# EAGLE library part F5463AH (library simple_clock)
LED Displays & Accessories 88:88 Clock Module 0.56in 4 Digits Common Cathode
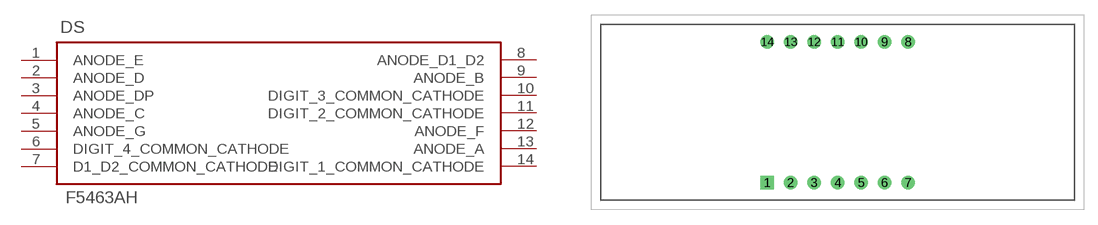
[diagram p0: symbol with the pads of F5463AH; footprint F5463AH]

Designator prefix DS

## F5463AH (DESCRIPTION: LED Displays & Accessories 88:88 Clock Module 0.56in 4 Digits CC)  [F5463AH]
1  ANODE_E
2  ANODE_D
3  ANODE_DP
4  ANODE_C
5  ANODE_G
6  DIGIT_4_COMMON_CATHODE
7  D1_D2_COMMON_CATHODE
8  ANODE_D1_D2
9  ANODE_B
10  DIGIT_3_COMMON_CATHODE
11  DIGIT_2_COMMON_CATHODE
12  ANODE_F
13  ANODE_A
14  DIGIT_1_COMMON_CATHODE

## Footprint F5463AH (pad centres in mm)
F5463AH
drill 0.9 square: 1 -7.62,-7.62
drill 0.9: 2 -5.08,-7.62; 3 -2.54,-7.62; 4 0,-7.62; 5 2.54,-7.62; 6 5.08,-7.62; 7 7.62,-7.62; 8 7.62,7.62; 9 5.08,7.62; 10 2.54,7.62; 11 0,7.62; 12 -2.54,7.62; 13 -5.08,7.62; 14 -7.62,7.62